# Altium schematic symbol library DIODE-ZENER.Schlib: 1 symbol
Pins are listed as number, name and electrical type; pins without a type are passive.

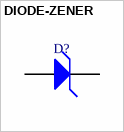
[diagram p0: symbol DIODE-ZENER]

## DIODE-ZENER
designator D?
pins: A, K